# Altium footprint library realsense_bridge.PcbLib: 1 footprints
Each footprint in its own frame and in the unit in brackets; x right, y up, seen from the top. Pads: shape width x height; smd on the part's side, far side on the other; paste and mask are expansions set on the pad; w line width, h text height; cw(c..) or ccw(c..) is an arc to the next point about the centre after c.
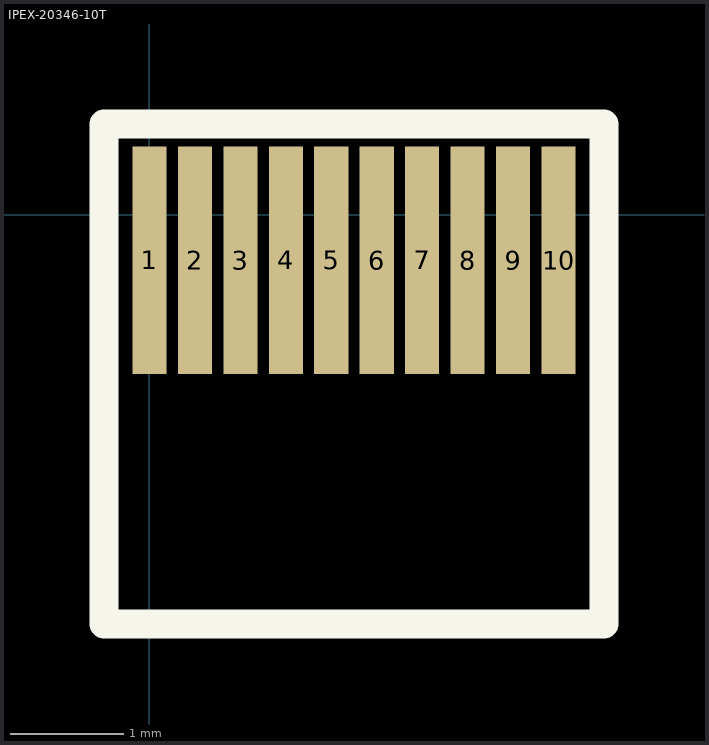
[diagram p0: the footprint, top view; thin cyan lines are the x and y axes]

## IPEX-20346-10T [mm]
height 1
pads (10):
  rect 0.3x2 smd: 1(0,-0.4) 2(0.4,-0.4) 3(0.8,-0.4) 4(1.2,-0.4) 5(1.6,-0.4) 6(2,-0.4) 7(2.4,-0.4) 8(2.8,-0.4) 9(3.2,-0.4) 10(3.6,-0.4)
Top Overlay:
  lines w0.254: -0.4,-3.6 -0.4,0.8 4,0.8 4,-3.6 -0.4,-3.6